# Altium schematic symbol library IC_RT_RTL8152B-VB-CG.SchLib: 1 symbol
Pins are listed as number, name and electrical type; pins without a type are passive.

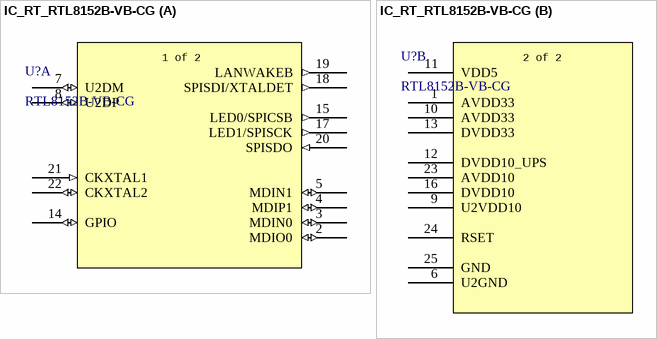
[diagram p0: symbol IC_RT_RTL8152B-VB-CG]

## IC_RT_RTL8152B-VB-CG
designator U?, comment RTL8152B-VB-CG
Description; Manufacturer_Name: Realtek; Copyright: Copyright (C) 2025 Ultra Librarian. All rights reserved.; Manufacturer_Part_Number: RTL8152B-VB-CG; RefDes: RefDes; Type: Type
footprint IC_RTL8152B-VB-CG_RTK
part A pins: 2 MDIO0 (io), 3 MDIN0 (io), 4 MDIP1 (io), 5 MDIN1 (io), 7 U2DM (io), 8 U2DP (io), 14 GPIO (io), 15 LED0/SPICSB (out), 17 LED1/SPISCK (out), 18 SPISDI/XTALDET (out), 19 LANWAKEB (out), 20 SPISDO (in), 21 CKXTAL1 (in), 22 CKXTAL2 (io)
part B pins: 1 AVDD33 (power), 6 U2GND (power), 9 U2VDD10 (power), 10 AVDD33 (power), 11 VDD5 (power), 12 DVDD10_UPS (power), 13 DVDD33 (power), 16 DVDD10 (power), 23 AVDD10 (power), 24 RSET (power), 25 GND (power)
part A text: 1 of 2
part B text: 2 of 2